# Altium footprint library MK-12C02.PcbLib: 1 footprints
Each footprint in its own frame and in the unit in brackets; x right, y up, seen from the top. Pads: shape width x height; smd on the part's side, far side on the other; paste and mask are expansions set on the pad; w line width, h text height; cw(c..) or ccw(c..) is an arc to the next point about the centre after c.
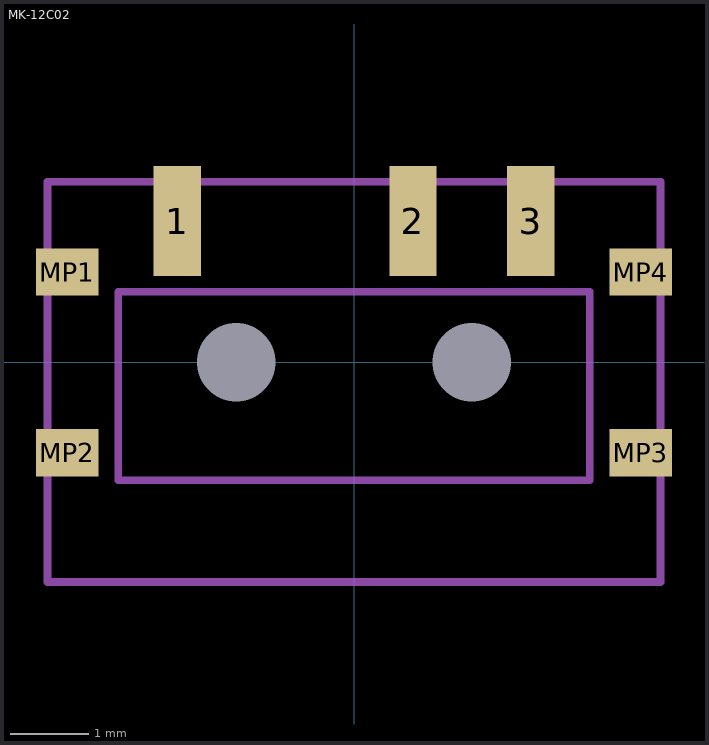
[diagram p0: the footprint, top view; thin cyan lines are the x and y axes]

## MK-12C02 [mm] "Body 7.8X5.2MM High 1.9mm"
height 1.9
pads (9):
  rect 0.6x1.4 smd: 1(-2.25,1.8) 2(0.75,1.8) 3(2.25,1.8)
  rect 0x0 hole 1 unplated: MH1(-1.5,0) MH2(1.5,0)
  rect 0.8x0.6 smd: MP1(-3.65,1.15) MP2(-3.65,-1.15) MP3(3.65,-1.15) MP4(3.65,1.15)
Mechanical 13:
  lines w0.1: -3.9,-2.794 -3.9,2.3 3.9,2.3 3.9,-2.794 -3.9,-2.794
Mechanical 15:
  lines w0.1: -3,-1.5 -3,0.9 3,0.9 3,-1.5 -3,-1.5
3D body: height 1.4, standoff -0.51, extent -3.9,-2.85 3.9,2.35